# EAGLE library part LM358DRG3 (library SamacSys_Parts)
Dual standard operational amplifier Source: Datasheet <http://www.ti.com/lit/gpn/lm358>
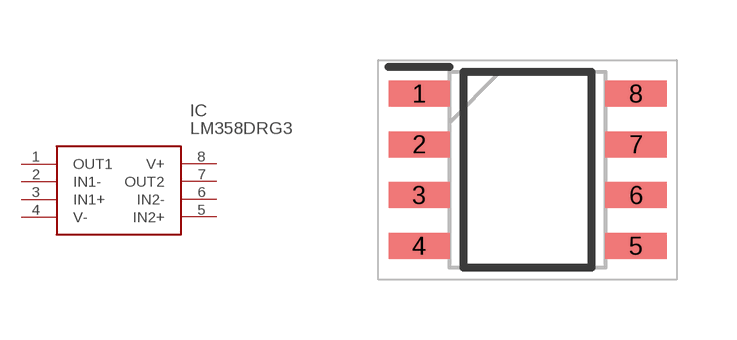
[diagram p10: symbol with the pads of SOIC127P600X175-8N; footprint SOIC127P600X175-8N]

Designator prefix IC

## LM358DRG3 (DESCRIPTION: Dual standard operational amplifier; HEIGHT: 1.75mm; MANUFACTURER_NAME: Texas Instruments; MANUFACTURER_PART_NUMBER: LM358DRG3; MOUSER_PART_NUMBER: 595-LM358DRG3; MOUSER_PRICE-STOCK: https://www.mouser.co.uk/ProductDetail/Texas-Instruments/LM358DRG3?qs=EuM%2FBx4ov4Rx34%252Bm5fT4Qw%3D%3D)  [SOIC127P600X175-8N]
1  OUT1
2  IN1-
3  IN1+
4  V-
5  IN2+
6  IN2-
7  OUT2
8  V+

## Footprint SOIC127P600X175-8N (pad centres in mm)
D0008A SOIC - 1.75 mm max height_2
smd 1.528 x 0.65: 1 -2.711,1.905; 2 -2.711,0.635; 3 -2.711,-0.635; 4 -2.711,-1.905; 5 2.711,-1.905; 6 2.711,-0.635; 7 2.711,0.635; 8 2.711,1.905